# EAGLE library part L6585DE (library ST Microelectronics)
Combo IC for PFC and ballast control
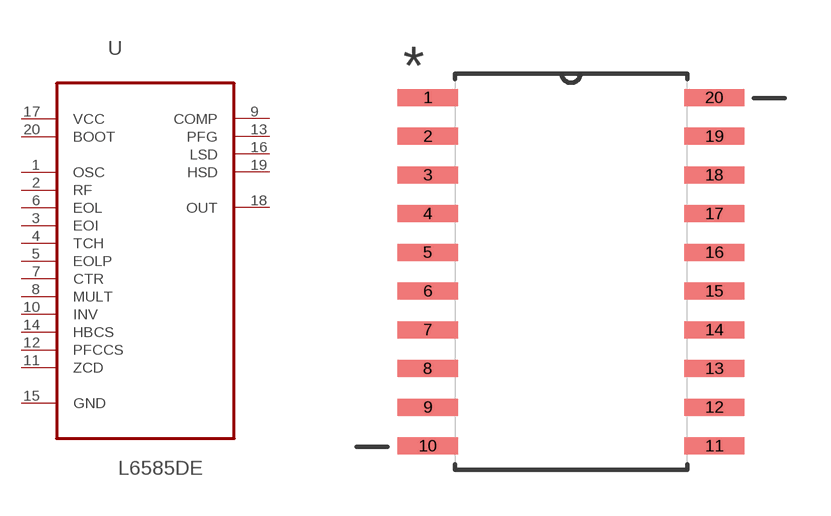
[diagram p50: symbol with the pads of SOIC127P1032X265-20N; footprint SOIC127P1032X265-20N]

Designator prefix U

## L6585DE (MPN: L6585DE; OC_FARNELL: -; OC_NEWARK: 25R7852; PACKAGE: SOIC-20; SUPPLIER: STMicroelectronics)  [SOIC127P1032X265-20N]
1  OSC  in
2  RF  in
3  EOI  in
4  TCH  in
5  EOLP  in
6  EOL  in
7  CTR  in
8  MULT  in
9  COMP  out
10  INV  in
11  ZCD  in
12  PFCCS  in
13  PFG  out
14  HBCS  in
15  GND  pas
16  LSD  out
17  VCC  pwr
18  OUT  out
19  HSD  out
20  BOOT  pwr

## Footprint SOIC127P1032X265-20N (pad centres in mm)
smd 1.981 x 0.559: 1 -4.699,5.715; 2 -4.699,4.445; 3 -4.699,3.175; 4 -4.699,1.905; 5 -4.699,0.635; 6 -4.699,-0.635; 7 -4.699,-1.905; 8 -4.699,-3.175; 9 -4.699,-4.445; 10 -4.699,-5.715; 11 4.699,-5.715; 12 4.699,-4.445; 13 4.699,-3.175; 14 4.699,-1.905; 15 4.699,-0.635; 16 4.699,0.635; 17 4.699,1.905; 18 4.699,3.175; 19 4.699,4.445; 20 4.699,5.715